# EAGLE library part EHF10-* (library con-samtec-ehf)
Shrouded IDC Ejector Header EHF Series
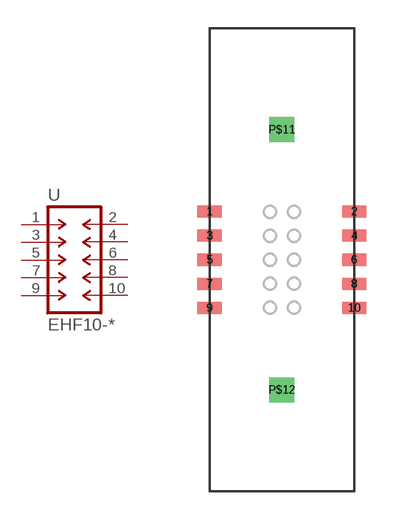
[diagram p0: symbol with the pads of EHF10; footprint EHF10]

Designator prefix -

## EHF10- (TAILOPTION: SM)  [EHF10]
1  1  pas
2  2  pas
3  3  pas
4  4  pas
5  5  pas
6  6  pas
7  7  pas
8  8  pas
9  9  pas
10  10  pas

## Footprint EHF10 (pad centres in mm)
smd 1.27 x 0.635: 1 -3.81,2.54; 2 3.81,2.54; 3 -3.81,1.27; 4 3.81,1.27; 5 -3.81,0; 6 3.81,0; 7 -3.81,-1.27; 8 3.81,-1.27; 9 -3.81,-2.54; 10 3.81,-2.54
drill 0.8 square: P$11 0,6.858; P$12 0,-6.858